# Altium schematic symbol library R.SchLib: 1 symbol
Pins are listed as number, name and electrical type; pins without a type are passive.

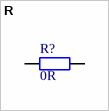
[diagram p0: symbol R]

## R
designator R?, comment 0R
pins: 1, 2